# Altium footprint library Connectors.PcbLib: 62 footprints (part 2 of 4)
Each footprint in its own frame and in the unit in brackets; x right, y up, seen from the top. Pads: shape width x height; smd on the part's side, far side on the other; paste and mask are expansions set on the pad; w line width, h text height; cw(c..) or ccw(c..) is an arc to the next point about the centre after c.
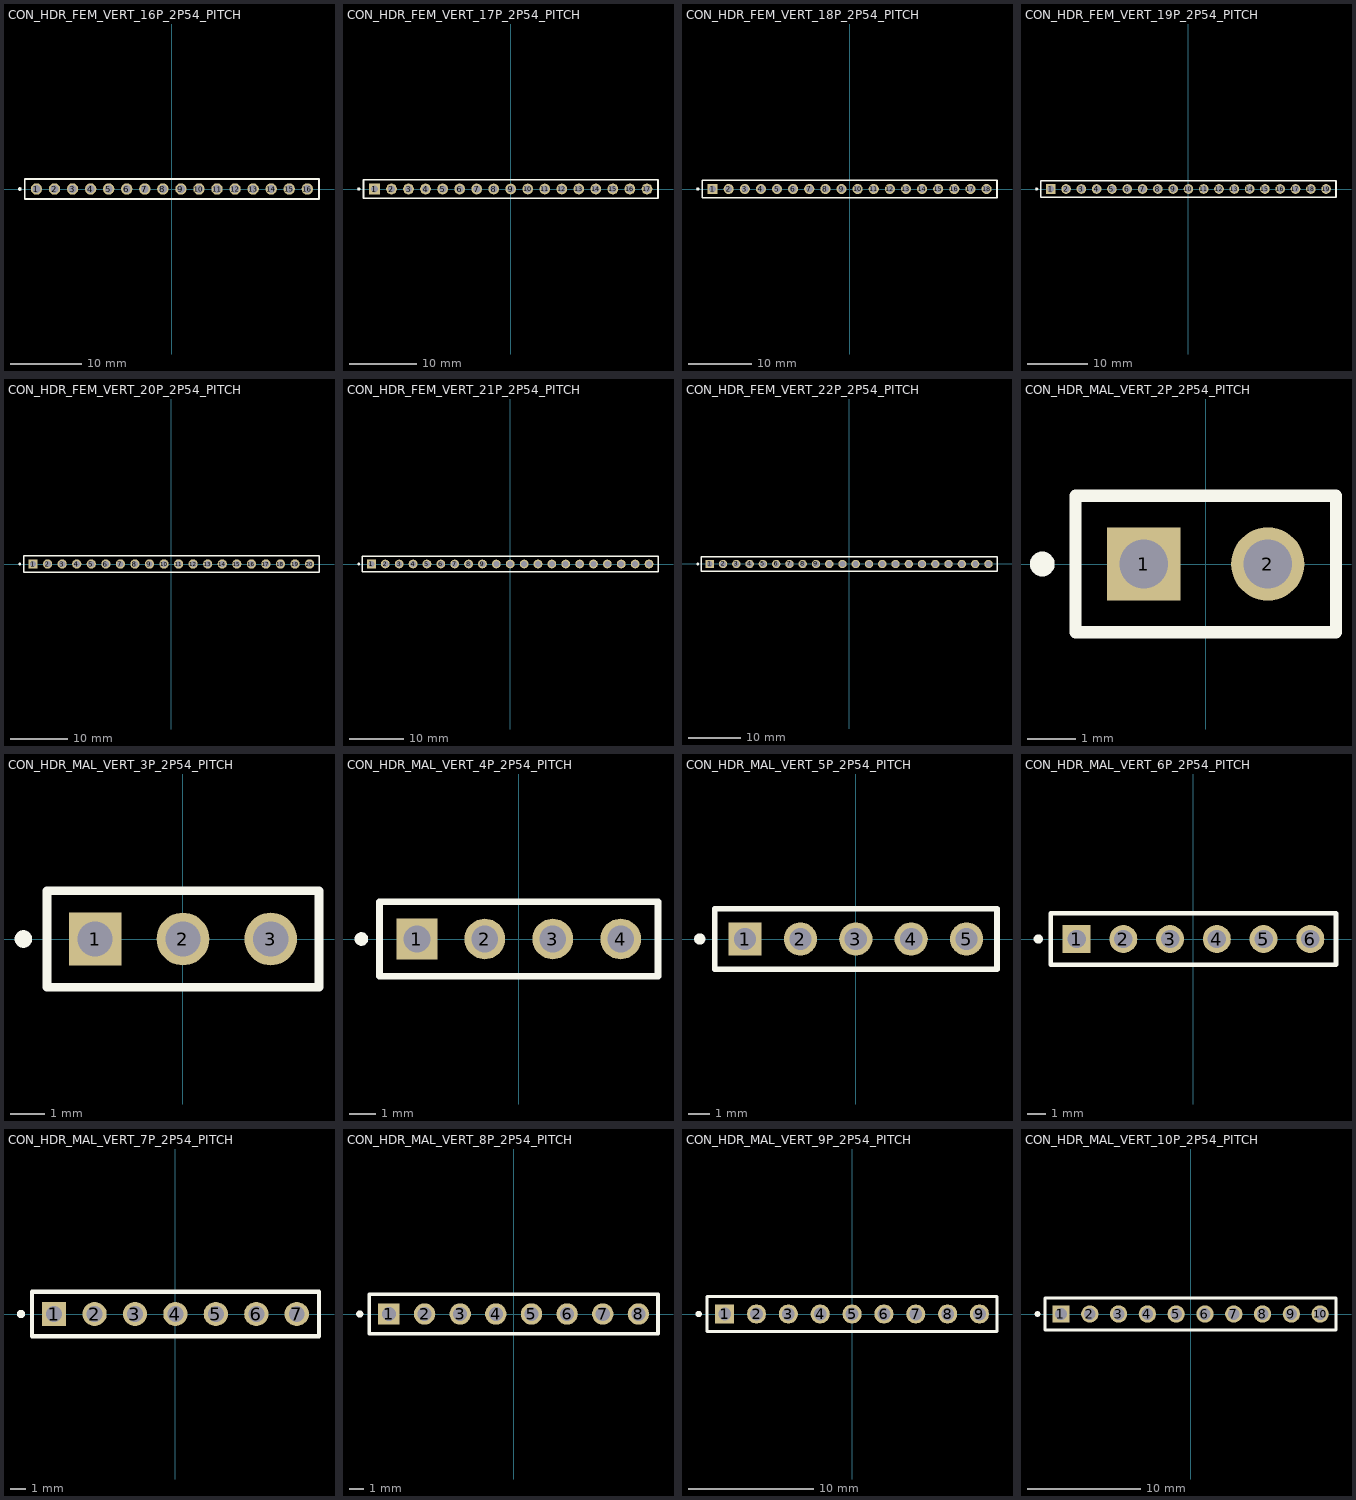
[diagram p1: the footprints below, top view; thin cyan lines are the x and y axes]

## CON_HDR_FEM_VERT_16P_2P54_PITCH [mm]
pads (16):
  round 1.6 hole 1.1: 1(-19.05,0) 2(-16.51,0) 3(-13.97,0) 4(-11.43,0) 5(-8.89,0) 6(-6.35,0) 7(-3.81,0) 8(-1.27,0) 9(1.27,0) 10(3.81,0) 11(6.35,0) 12(8.89,0) 13(11.43,0) 14(13.97,0) 15(16.51,0) 16(19.05,0)
Top Overlay:
  circle w0.254: c-21.378,0 r0.127
  lines w0.254: -20.697,-1.397 -20.697,1.397 20.697,1.397 20.697,-1.397 -20.697,-1.397
3D body "16-Pin Header - Female - 2.54mm.step": height 5, standoff -3, extent -20.57,-1.25 20.57,1.25

## CON_HDR_FEM_VERT_17P_2P54_PITCH [mm]
pads (17):
  rect 1.6x1.6 hole 1.1: 1(-20.32,0)
  round 1.6 hole 1.1: 2(-17.78,0) 3(-15.24,0) 4(-12.7,0) 5(-10.16,0) 6(-7.62,0) 7(-5.08,0) 8(-2.54,0) 9(0,0) 10(2.54,0) 11(5.08,0) 12(7.62,0) 13(10.16,0) 14(12.7,0) 15(15.24,0) 16(17.78,0) 17(20.32,0)
Top Overlay:
  circle w0.254: c-22.648,0 r0.127
  lines w0.254: -21.967,-1.397 -21.967,1.397 21.967,1.397 21.967,-1.397 -21.967,-1.397
3D body "17-Pin Header - Female - 2.54mm.step": height 5, standoff -3, extent -21.84,-1.25 21.84,1.25

## CON_HDR_FEM_VERT_18P_2P54_PITCH [mm]
pads (18):
  rect 1.6x1.6 hole 1.1: 1(-21.59,0)
  round 1.6 hole 1.1: 2(-19.05,0) 3(-16.51,0) 4(-13.97,0) 5(-11.43,0) 6(-8.89,0) 7(-6.35,0) 8(-3.81,0) 9(-1.27,0) 10(1.27,0) 11(3.81,0) 12(6.35,0) 13(8.89,0) 14(11.43,0) 15(13.97,0) 16(16.51,0) 17(19.05,0) 18(21.59,0)
Top Overlay:
  circle w0.254: c-23.918,0 r0.127
  lines w0.254: -23.237,-1.397 -23.237,1.397 23.237,1.397 23.237,-1.397 -23.237,-1.397
3D body "18-Pin Header - Female - 2.54mm.step": height 5, standoff -3, extent -23.11,-1.25 23.11,1.25

## CON_HDR_FEM_VERT_19P_2P54_PITCH [mm]
pads (19):
  rect 1.6x1.6 hole 1.1: 1(-22.86,0)
  round 1.6 hole 1.1: 2(-20.32,0) 3(-17.78,0) 4(-15.24,0) 5(-12.7,0) 6(-10.16,0) 7(-7.62,0) 8(-5.08,0) 9(-2.54,0) 10(0,0) 11(2.54,0) 12(5.08,0) 13(7.62,0) 14(10.16,0) 15(12.7,0) 16(15.24,0) 17(17.78,0) 18(20.32,0) 19(22.86,0)
Top Overlay:
  circle w0.254: c-25.188,0 r0.127
  lines w0.254: -24.507,-1.397 -24.507,1.397 24.507,1.397 24.507,-1.397 -24.507,-1.397
3D body "19-Pin Header - Female - 2.54mm.step": height 5, standoff -3, extent -24.38,-1.25 24.38,1.25

## CON_HDR_FEM_VERT_20P_2P54_PITCH [mm]
pads (20):
  rect 1.6x1.6 hole 1.1: 1(-24.13,0)
  round 1.6 hole 1.1: 2(-21.59,0) 3(-19.05,0) 4(-16.51,0) 5(-13.97,0) 6(-11.43,0) 7(-8.89,0) 8(-6.35,0) 9(-3.81,0) 10(-1.27,0) 11(1.27,0) 12(3.81,0) 13(6.35,0) 14(8.89,0) 15(11.43,0) 16(13.97,0) 17(16.51,0) 18(19.05,0) 19(21.59,0) 20(24.13,0)
Top Overlay:
  circle w0.254: c-26.458,0 r0.127
  lines w0.254: -25.777,-1.397 25.777,-1.397 25.777,1.397 -25.777,1.397 -25.777,-1.397
3D body "20-Pin Header - Female - 2.54mm.step": height 5, standoff -3, extent -25.65,-1.25 25.65,1.25

## CON_HDR_FEM_VERT_21P_2P54_PITCH [mm]
pads (21):
  rect 1.6x1.6 hole 1.1: 1(-25.4,0)
  round 1.6 hole 1.1: 2(-22.86,0) 3(-20.32,0) 4(-17.78,0) 5(-15.24,0) 6(-12.7,0) 7(-10.16,0) 8(-7.62,0) 9(-5.08,0) 10(-2.54,0) 11(0,0) 12(2.54,0) 13(5.08,0) 14(7.62,0) 15(10.16,0) 16(12.7,0) 17(15.24,0) 18(17.78,0) 19(20.32,0) 20(22.86,0) 21(25.4,0)
Top Overlay:
  circle w0.254: c-27.728,0 r0.127
  lines w0.254: -27.047,-1.397 27.047,-1.397 27.047,1.397 -27.047,1.397 -27.047,-1.397
3D body "21-Pin Header - Female.STEP": height 5, standoff -3, extent -26.919,-1.25 26.919,1.251

## CON_HDR_FEM_VERT_22P_2P54_PITCH [mm]
pads (22):
  rect 1.6x1.6 hole 1.1: 1(-26.67,0)
  round 1.6 hole 1.1: 2(-24.13,0) 3(-21.59,0) 4(-19.05,0) 5(-16.51,0) 6(-13.97,0) 7(-11.43,0) 8(-8.89,0) 9(-6.35,0) 10(-3.81,0) 11(-1.27,0) 12(1.27,0) 13(3.81,0) 14(6.35,0) 15(8.89,0) 16(11.43,0) 17(13.97,0) 18(16.51,0) 19(19.05,0) 20(21.59,0) 21(24.13,0) 22(26.67,0)
Top Overlay:
  circle w0.254: c-28.998,0 r0.127
  lines w0.254: -28.317,-1.397 -28.317,1.397 28.317,1.397 28.317,-1.397 -28.317,-1.397
3D body "22-Pin Header - Female.STEP": height 5, standoff -3, extent -28.189,-1.25 28.189,1.251

## CON_HDR_MAL_VERT_2P_2P54_PITCH [mm]
pads (2):
  rect 1.5x1.5 hole 1 paste-2539.97 mask+0: 1(-1.27,0)
  round 1.5 hole 1 paste-2539.97 mask+0: 2(1.27,0)
Top Overlay:
  circle w0.254: c-3.348,0 r0.127
  lines w0.254: -2.667,-1.397 2.667,-1.397 2.667,1.397 -2.667,1.397 -2.667,-1.397
3D body "2-Pin Header - Male - 2.54mm.step": height 8.89, standoff -3.05, extent -2.54,-1.27 2.54,1.27

## CON_HDR_MAL_VERT_3P_2P54_PITCH [mil]
pads (3):
  rect 60x60 / inner round 60 / far side rect 60x60 hole 40 paste-99999 mask+0: 1(-100,0)
  round 60 hole 40 paste-99999 mask+0: 2(0,0) 3(100,0)
Top Overlay:
  circle w10: c-181.81,0 r5
  lines w10: -155,-55 155,-55 155,55 -155,55 -155,-55
3D body "3-Pin Header - Male - 2.54mm.step": height 350, standoff -120, extent -150,-50 150,50

## CON_HDR_MAL_VERT_4P_2P54_PITCH [mil]
pads (4):
  rect 60x60 / inner round 60 / far side rect 60x60 hole 39.37 paste-99999 mask+0: 1(-150,0)
  round 60 hole 39.37 paste-99999 mask+0: 2(-50,0) 3(50,0) 4(150,0)
Top Overlay:
  circle w10: c-231.81,0 r5
  lines w10: -205,-55 -205,55 205,55 205,-55 -205,-55
3D body "4-Pin Header - Male - 2.54mm.step": height 350, standoff -120, extent -200,-50 200,50

## CON_HDR_MAL_VERT_5P_2P54_PITCH [mil]
pads (5):
  rect 60x60 / inner round 60 / far side rect 60x60 hole 40 paste-99999 mask+0: 1(-200,0)
  round 60 hole 40 paste-99999 mask+0: 2(-100,0) 3(0,0) 4(100,0) 5(200,0)
Top Overlay:
  circle w10: c-281.81,0 r5
  lines w10: -255,-55 255,-55 255,55 -255,55 -255,-55
3D body "5-Pin Header - Male - 2.54mm.step": height 350, standoff -120, extent -250,-49.8 250,50.2

## CON_HDR_MAL_VERT_6P_2P54_PITCH [mil]
pads (6):
  rect 60x60 / inner round 60 / far side rect 60x60 hole 39.37 paste-99999 mask+0: 1(-250,0)
  round 60 hole 39.37 paste-99999 mask+0: 2(-150,0) 3(-50,0) 4(50,0) 5(150,0) 6(250,0)
Top Overlay:
  circle w10: c-331.81,0 r5
  lines w10: -305,-55 305,-55 305,55 -305,55 -305,-55
3D body "6-Pin Header - Male - 2.54mm.step": height 350, standoff -120, extent -300,-50 300,50

## CON_HDR_MAL_VERT_7P_2P54_PITCH [mil]
pads (7):
  rect 60x60 / inner round 60 / far side rect 60x60 hole 39.37 paste-99999 mask+0: 1(-300,0)
  round 60 hole 39.37 paste-99999 mask+0: 2(-200,0) 3(-100,0) 4(0,0) 5(100,0) 6(200,0) 7(300,0)
Top Overlay:
  circle w10: c-381.81,0 r5
  lines w10: -355,-55 355,-55 355,55 -355,55 -355,-55
3D body "7-Pin Header - Male - 2.54mm.step": height 350, standoff -120, extent -350,-50 350,50

## CON_HDR_MAL_VERT_8P_2P54_PITCH [mil]
pads (8):
  rect 60x60 / inner round 60 / far side rect 60x60 hole 39.37 paste-99999 mask+0: 1(-350,0)
  round 60 hole 39.37 paste-99999 mask+0: 2(-250,0) 3(-150,0) 4(-50,0) 5(50,0) 6(150,0) 7(250,0) 8(350,0)
Top Overlay:
  circle w10: c-431.81,0 r5
  lines w10: -405,-55 405,-55 405,55 -405,55 -405,-55
3D body "8-Pin Header - Male - 2.54mm.step": height 350, standoff -120, extent -400,-50 400,50

## CON_HDR_MAL_VERT_9P_2P54_PITCH [mil]
pads (9):
  rect 60x60 / inner round 60 / far side rect 60x60 hole 40 paste-99999 mask+0: 1(-400,0)
  round 60 hole 40 paste-99999 mask+0: 2(-300,0) 3(-200,0) 4(-100,0) 5(0,0) 6(100,0) 7(200,0) 8(300,0) 9(400,0)
Top Overlay:
  circle w10: c-481.81,0 r5
  lines w10: -455,-55 -455,55 455,55 455,-55 -455,-55
3D body "9-Pin Header - Male - 2.54mm.step": height 350, standoff -120, extent -450.1,-50 449.9,50

## CON_HDR_MAL_VERT_10P_2P54_PITCH [mil]
pads (10):
  rect 60x60 / inner round 60 / far side rect 60x60 hole 40 paste-99999 mask+0: 1(-450,0)
  round 60 hole 40 paste-99999 mask+0: 2(-350,0) 3(-250,0) 4(-150,0) 5(-50,0) 6(50,0) 7(150,0) 8(250,0) 9(350,0) 10(450,0)
Top Overlay:
  circle w10: c-531.81,0 r5
  lines w10: -505,-55 505,-55 505,55 -505,55 -505,-55
3D body "10-Pin Header - Male - 2.54mm.step": height 350, standoff -120, extent -501.18,-50 498.82,50